# Altium footprint library SRU1028A-680Y.PcbLib: 1 footprints
Each footprint in its own frame and in the unit in brackets; x right, y up, seen from the top. Pads: shape width x height; smd on the part's side, far side on the other; paste and mask are expansions set on the pad; w line width, h text height; cw(c..) or ccw(c..) is an arc to the next point about the centre after c.
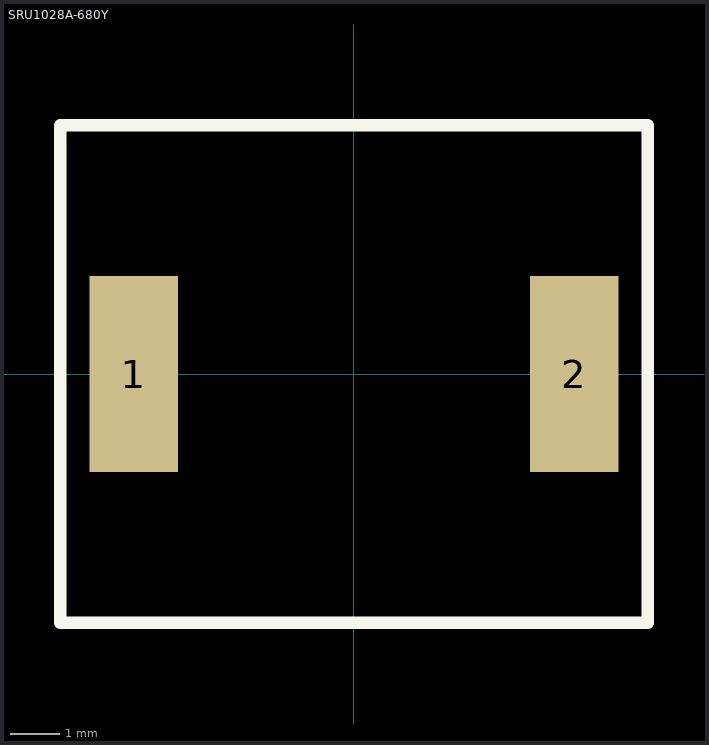
[diagram p0: the footprint, top view; thin cyan lines are the x and y axes]

## SRU1028A-680Y [mm]
pads (2):
  rect 1.8x4 smd: 1(-4.5,0) 2(4.5,0)
Top Overlay:
  lines w0.254: -6,-5.08 6,-5.08 6,5.08 -6,5.08 -6,-5.08
3D body "SRU1028A-680Y.stp": height 2.76, standoff 0.01, extent -5.255,-5.304 5.145,4.796